# Altium schematic symbol library smdUtilities.SchLib: 114 symbols (part 1 of 2)
Pins are listed as number, name and electrical type; pins without a type are passive.

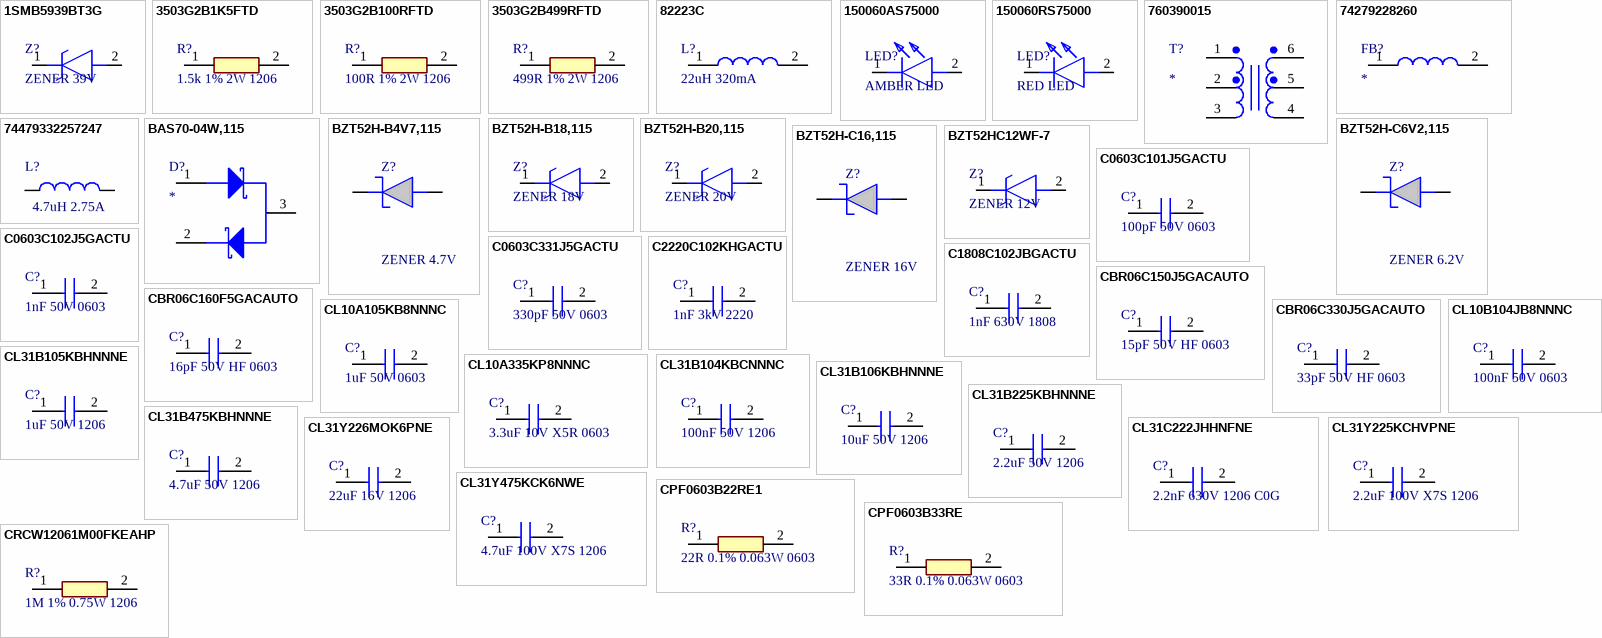
[diagram p0: symbols 1SMB5939BT3G to CRCW12061M00FKEAHP]

## 1SMB5939BT3G
designator Z?, comment ZENER 39V
ZENER 39V 3W SMB; Manufacturer_Name: onsemi; Manufacturer_Part_Number: 1SMB5939BT3G; Datasheet Link: https://www.onsemi.com/pub/Collateral/1SMB5913BT3-D.PDF; Height: 2.47mm; Mouser Part Number: 863-1SMB5939BT3G; Mouser Price/Stock: https://www.mouser.co.uk/ProductDetail/onsemi/1SMB5939BT3G?qs=vLkC5FC1VN%2FXzAJEtVrzbQ%3D%3D; Arrow Part Number: 1SMB5939BT3G; Arrow Price/Stock: https://www.arrow.com/en/products/1smb5939bt3g/on-semiconductor
footprint DIOM5436X247N
pins: 1 K, 2 A

## 3503G2B1K5FTD
designator R?, comment 1.5k 1% 2W 1206
RES 1.5 KOHM 1% 2W 1206; Manufacturer_Name: TE Connectivity; Manufacturer_Part_Number: 3503G2B1K5FTD; Datasheet Link: https://www.te.com/commerce/DocumentDelivery/DDEController?Action=srchrtrv&DocNm=1773270-4&DocType=Data%20Sheet&DocLang=English&PartCntxt=4-2176525-9&DocFormat=pdf; Height: 0.58mm
footprint RESC3016X58N
pins: 1, 2

## 3503G2B100RFTD
designator R?, comment 100R 1% 2W 1206
RES 100 OHM 1% 2W 1206; Manufacturer_Name: TE Connectivity; Manufacturer_Part_Number: 3503G2B100RFTD; Datasheet Link: https://www.te.com/commerce/DocumentDelivery/DDEController?Action=srchrtrv&DocNm=1773270-4&DocType=Data%20Sheet&DocLang=English&PartCntxt=4-2176525-9&DocFormat=pdf; Height: 0.58mm
footprint RESC3016X58N
pins: 1, 2

## 3503G2B499RFTD
designator R?, comment 499R 1% 2W 1206
RES 499 OHM 1% 2W 1206; Manufacturer_Name: TE Connectivity; Manufacturer_Part_Number: 3503G2B499RFTD; Datasheet Link: https://www.te.com/commerce/DocumentDelivery/DDEController?Action=srchrtrv&DocNm=1773270-4&DocType=Data%20Sheet&DocLang=English&PartCntxt=4-2176525-9&DocFormat=pdf; Height: 0.58mm
footprint RESC3016X58N
pins: 1, 2

## 82223C
designator L?, comment 22uH 320mA
FIXED IND 22UH 320MA 920MOHM SMD; Manufacturer_Name: Murata Electronics; Manufacturer_Part_Number: 82223C; Datasheet Link: https://search.murata.co.jp/Ceramy/image/img/P02A/kmp_8200c.pdf; Height: 2.3mm; Mouser Part Number: 580-82223C; Mouser Price/Stock: https://www.mouser.co.uk/ProductDetail/Murata-Power-Solutions/82223C?qs=YrwRCnq4S4jab2vxz%2FxF7Q%3D%3D; Arrow Part Number: 82223C; Arrow Price/Stock: https://www.arrow.com/en/products/82223c/murata-power-solutions?utm_currency=USD&region=nac
footprint 8200
pins: 1, 2

## 150060AS75000
designator LED?, comment AMBER LED
LED AMBER 2V 20mA; Manufacturer_Name: Wurth Elektronik; Manufacturer_Part_Number: 150060AS75000; Datasheet Link: https://www.we-online.com/catalog/datasheet/150060AS75000.pdf; Height: 0.8mm; Mouser Part Number: 710-150060AS75000; Mouser Price/Stock: https://www.mouser.co.uk/ProductDetail/Wurth-Elektronik/150060AS75000?qs=d0WKAl%252BL4KbvMBYryeof0Q%3D%3D
footprint LEDC1608X80N
pins: 1 K, 2 A

## 150060RS75000
designator LED?, comment RED LED
LED RED 2V 30mA; Manufacturer_Name: Wurth Elektronik; Manufacturer_Part_Number: 150060RS75000; Datasheet Link: https://www.we-online.com/catalog/datasheet/150060RS75000.pdf; Height: 0.7mm; Mouser Part Number: 710-150060RS75000; Mouser Price/Stock: https://www.mouser.co.uk/ProductDetail/Wurth-Elektronik/150060RS75000?qs=LlUlMxKIyB3QnmZ3fw%2FVCA%3D%3D
footprint LEDC1608X70N
pins: 1 K, 2 A

## 760390015
designator T?
TRAFO P-P 3.3V-5.5V; Manufacturer_Name: Wurth Elektronik; Manufacturer_Part_Number: 760390015; Datasheet Link: https://www.we-online.com/components/products/datasheet/760390015.pdf; Mouser Part Number: 710-760390015; Mouser Price/Stock: https://www.mouser.co.uk/ProductDetail/Wurth-Elektronik/760390015?qs=wElim4iM2pjOQCmk%252B8YbFA%3D%3D
footprint 760390015
pins: 1, 2, 3, 4, 5, 6

## 74279228260
designator FB?
FERRITE BEAD 26 OHM @ 100 MHz 0603; Manufacturer_Name: Wurth Elektronik; Manufacturer_Part_Number: 74279228260; Datasheet Link: https://www.mouser.com/datasheet/2/445/74279228260-516425.pdf; Height: 1mm; Mouser Part Number: 710-74279228260; Mouser Price/Stock: https://www.mouser.co.uk/ProductDetail/Wurth-Elektronik/74279228260?qs=%252B7BPNfeNhvUzH8CaXHTy3g%3D%3D
footprint BEADC1608X100N
pins: 1, 2

## 74479332257247
designator L?, comment 4.7uH 2.75A
FIXED IND 4.7UH 2.75A 107MOHM SMD; Manufacturer Part Number: 74479332257247; Manufacturer: Wurth Elektronik; Match Code: WE-PMFI; Case/Size Code: 322512; DC Resistance: 107mΩ; Inductance: 4.7μH; Performance Rated Current: 2.7A; Operating Voltage (AC): 48V; Saturation Current @ 30%: 4A; Self Resonant Frequency: 25MHz; Category: Power Inductors; ComponentLink1Description: Website Link; ComponentLink1URL: https://www.we-online.com/redexpert/article/74479332257247?ad; ComponentLink2Description: Datasheet Link; ComponentLink2URL: https://www.we-online.com/redexpert/spec/74479332257247?ad; Mount: Surface Mount; Min Operating Temperature: -55°C; Max Operating Temperature: 150°C; Packaging: Tape and Reel; Length: 3.2mm; Width: 2.5mm; Height: 1.2mm
footprint WE-PMFI_322512_IPC-7351 (SMT Power Inductor, body 3.20 x 2.50 mm)
pins: 1, 2

## BAS70-04W,115
designator D?
DIODE ARR SCHOTT SERIES 70V 70MA SOT323; Manufacturer_Name: Nexperia; Manufacturer_Part_Number: BAS70-04W,115; Datasheet Link: https://assets.nexperia.com/documents/data-sheet/BAS70-04W.pdf; Height: 1.1mm; Mouser Part Number: 771-BAS70-04W-T/R; Mouser Price/Stock: https://www.mouser.co.uk/ProductDetail/Nexperia/BAS70-04W115?qs=me8TqzrmIYVfBozCNyL8nw%3D%3D; Arrow Part Number: BAS70-04W,115; Arrow Price/Stock: https://www.arrow.com/en/products/bas70-04w115/nexperia?utm_currency=USD&region=nac
footprint SOT65P210X110-3N
pins: 1 A1, 2 K2, 3 K1;_A2

## BZT52H-B4V7,115
designator Z?, comment ZENER 4.7V
ZENER 4V7 SOD-123F; Manufacturer_Name: Nexperia; Manufacturer_Part_Number: BZT52H-B4V7,115; Geometry.Height: 1.2mm; Arrow Part Number: BZT52H-B4V7,115; Datasheet Link: https://assets.nexperia.com/documents/data-sheet/BZT52H_SER.pdf
footprint BZT52HC5V6115
pins: 1 K, 2 A

## BZT52H-B18,115
designator Z?, comment ZENER 18V
ZENER 18V SOD-123F; Manufacturer_Name: Nexperia; Manufacturer_Part_Number: BZT52H-B18,115; Datasheet Link: https://assets.nexperia.com/documents/data-sheet/BZT52H_SER.pdf; Height: 1.2mm; Mouser Part Number: 771-BZT52HB18115; Mouser Price/Stock: https://www.mouser.co.uk/ProductDetail/Nexperia/BZT52H-B18115?qs=A1cBxND5mHIELp%2F27k%252B3RQ%3D%3D; Arrow Part Number: BZT52H-B18,115; Arrow Price/Stock: https://www.arrow.com/en/products/bzt52h-b18115/nexperia?region=nac
footprint SODFL3516X120N
pins: 1 K, 2 A

## BZT52H-B20,115
designator Z?, comment ZENER 20V
ZENER 20V SOD-123F; Manufacturer_Name: Nexperia; Manufacturer_Part_Number: BZT52H-B20,115; Datasheet Link: https://assets.nexperia.com/documents/data-sheet/BZT52H_SER.pdf; Height: 1.2mm
footprint SODFL3516X120N
pins: 1 K, 2 A

## BZT52H-C6V2,115
designator Z?, comment ZENER 6.2V
ZENER 6V2 SOD-123F; Manufacturer_Name: Nexperia; Manufacturer_Part_Number: BZT52H-C6V2,115; Geometry.Height: 1.2mm; Arrow Part Number: BZT52H-C6V2,115; Arrow Price/Stock: https://www.arrow.com/en/products/bzt52h-c8v2115/nexperia?region=nac; Datasheet Link: https://assets.nexperia.com/documents/data-sheet/BZT52H_SER.pdf
footprint BZT52HC5V6115
pins: 1 K, 2 A

## BZT52H-C16,115
designator Z?, comment ZENER 16V
ZENER 16V SOD-123F; Manufacturer_Name: Nexperia; Manufacturer_Part_Number: BZT52H-C16,115; Geometry.Height: 1.2mm; Arrow Part Number: BZT52H-C16,115; Arrow Price/Stock: https://www.arrow.com/en/products/bzt52h-c8v2115/nexperia?region=nac; Datasheet Link: https://assets.nexperia.com/documents/data-sheet/BZT52H_SER.pdf
footprint BZT52HC5V6115
pins: 1 K, 2 A

## BZT52HC12WF-7
designator Z?, comment ZENER 12V
ZENER 12V SOD-123F; Manufacturer_Name: Diodes Incorporated; Manufacturer_Part_Number: BZT52HC12WF-7; Datasheet Link: https://www.diodes.com//assets/Datasheets/BZT52HC2V4WF - BZT52HC47WF.pdf; Height: 1.15mm; Mouser Part Number: 621-BZT52HC12WF-7; Mouser Price/Stock: https://www.mouser.co.uk/ProductDetail/Diodes-Incorporated/BZT52HC12WF-7?qs=4z8IqdUrQ%2FuAek%2F8AIVCQA%3D%3D; Arrow Part Number: BZT52HC12WF-7; Arrow Price/Stock: https://www.arrow.com/en/products/bzt52hc12wf-7/diodes-incorporated?region=europe
footprint SODFL3518X115N
pins: 1 K, 2 A

## C0603C101J5GACTU
designator C?, comment 100pF 50V 0603
CAP CER 100PF 50V C0G 0603; Manufacturer_Name: Yageo Group; Manufacturer_Part_Number: C0603C101J5GACTU; Datasheet Link: https://www.yageogroup.com/content/datasheet/asset/file/KEM_C1003_C0G_SMD; Height: 0.87mm
footprint CAPC1608X87N
pins: 1, 2

## C0603C102J5GACTU
designator C?, comment 1nF 50V 0603
CAP CER 1000PF 50V C0G 0603; Manufacturer_Name: KEMET; Manufacturer_Part_Number: C0603C102J5GACTU; Datasheet Link: https://content.kemet.com/datasheets/KEM_C1003_C0G_SMD.pdf; Height: 0.87mm; Mouser Part Number: 80-C0603C102J5GAC; Mouser Price/Stock: https://www.mouser.co.uk/ProductDetail/KEMET/C0603C102J5GAC?qs=Zjfhvh7dXTOsQ2RXjJ2KwA%3D%3D; Arrow Part Number: C0603C102J5GAC; Arrow Price/Stock: https://www.arrow.com/en/products/c0603c102j5gac/kemet-corporation
footprint CAPC1608X87N
pins: 1, 2

## C0603C331J5GACTU
designator C?, comment 330pF 50V 0603
CAP CER 330PF 50V C0G 0603; Manufacturer_Name: Yageo Group; Manufacturer_Part_Number: C0603C331J5GACTU; Datasheet Link: https://www.yageogroup.com/content/datasheet/asset/file/KEM_C1003_C0G_SMD; Height: 0.87mm; Mouser Part Number: 80-C0603C331J5G; Mouser Price/Stock: https://www.mouser.co.uk/ProductDetail/KEMET/C0603C331J5GACTU?qs=uaRzdKR4dIhbJLQHMBvt4g%3D%3D; Arrow Part Number: C0603C331J5GACTU; Arrow Price/Stock: https://www.arrow.com/en/products/c0603c331j5gactu/kemet-corporation?utm_currency=USD&region=nac
footprint CAPC1608X87N
pins: 1, 2

## C1808C102JBGACTU
designator C?, comment 1nF 630V 1808
CAP CER 1000PF 630V C0G 1808; Manufacturer_Name: KEMET; Manufacturer_Part_Number: C1808C102JBGACTU; Datasheet Link: https://content.kemet.com/datasheets/KEM_C1009_C0G_HV_SMD.pdf; Height: 1.75mm; Mouser Part Number: 80-C1808C102JBG; Mouser Price/Stock: https://www.mouser.co.uk/ProductDetail/KEMET/C1808C102JBGACTU?qs=7IaIRco65plc2tmbg3Ygug%3D%3D; Arrow Part Number: C1808C102JBGACTU; Arrow Price/Stock: https://www.arrow.com/en/products/c1808c102jbgactu/kemet-corporation?utm_currency=USD&region=nac
footprint C1808
pins: 1, 2

## C2220C102KHGACTU
designator C?, comment 1nF 3kV 2220
CAP CER 1000PF 3KV C0G 2220; Manufacturer_Name: KEMET; Manufacturer_Part_Number: C2220C102KHGACTU; Datasheet Link: https://content.kemet.com/datasheets/KEM_C1009_C0G_HV_SMD.pdf; Height: 2.2mm; Mouser Part Number: 80-C2220C102KHGACTU; Mouser Price/Stock: https://www.mouser.co.uk/ProductDetail/KEMET/C2220C102KHGACTU?qs=sDVxE4SYDkQiR6xwfhJl6Q%3D%3D; Arrow Part Number: C2220C102KHGACTU; Arrow Price/Stock: https://www.arrow.com/en/products/c2220c102khgactu/kemet-corporation?utm_currency=USD&region=nac
footprint C2220
pins: 1, 2

## CBR06C150J5GACAUTO
designator C?, comment 15pF 50V HF 0603
CAP CER HF 15PF 50V C0G 0603; Manufacturer_Name: KEMET; Manufacturer_Part_Number: CBR06C150J5GACAUTO; Datasheet Link: https://search.kemet.com/download/datasheet/CBR06C150J5GACAUTO7411
footprint CBR06
pins: 1, 2

## CBR06C160F5GACAUTO
designator C?, comment 16pF 50V HF 0603
CAP CER HF 16PF 50V C0G 0603; Manufacturer_Name: KEMET; Manufacturer_Part_Number: CBR06C160F5GACAUTO; Datasheet Link: https://search.kemet.com/download/datasheet/CBR06C160F5GACAUTO
footprint CBR06
pins: 1, 2

## CBR06C330J5GACAUTO
designator C?, comment 33pF 50V HF 0603
CAP CER HF 33PF 50V C0G 0603; Manufacturer_Name: KEMET; Manufacturer_Part_Number: CBR06C330J5GACAUTO; Datasheet Link: https://search.kemet.com/download/datasheet/CBR06C330J5GACAUTO; Mouser Part Number: 80-CBR06C330J5GAUTO; Mouser Price/Stock: https://www.mouser.co.uk/ProductDetail/KEMET/CBR06C330J5GACAUTO?qs=By6Nw2ByBD34mt%252B59rpSTg%3D%3D; Arrow Part Number: CBR06C330J5GACAUTO; Arrow Price/Stock: https://www.arrow.com/en/products/cbr06c330j5gacauto/kemet-corporation?utm_currency=USD&region=nac
footprint CBR06
pins: 1, 2

## CL10A105KB8NNNC
designator C?, comment 1uF 50V 0603
CAP CER 1UF 50V X5R 0603; Manufacturer_Name: SAMSUNG; Manufacturer_Part_Number: CL10A105KB8NNNC; Datasheet Link: https://datasheet.datasheetarchive.com/originals/distributors/Datasheets-DGA10/2411562.pdf; Height: 0.9mm; Mouser Part Number: 187-CL10A105KB8NNNC; Mouser Price/Stock: https://www.mouser.co.uk/ProductDetail/Samsung-Electro-Mechanics/CL10A105KB8NNNC?qs=ktYoCbbtCSJz4pFCLWXd5g%3D%3D; Arrow Part Number: CL10A105KB8NNNC; Arrow Price/Stock: https://www.arrow.com/en/products/cl10a105kb8nnnc/samsung-electro-mechanics?utm_currency=USD&region=nac
footprint CAPC1608X90N
pins: 1, 2

## CL10A335KP8NNNC
designator C?, comment 3.3uF 10V X5R 0603
CAP CER 3.3UF 10V X5R 0603; Manufacturer_Name: SAMSUNG; Manufacturer_Part_Number: CL10A335KP8NNNC; Datasheet Link: https://datasheet.datasheetarchive.com/originals/dk/DKDS-19/373427.pdf; Height: 0.9mm; Mouser Part Number: 187-CL10A335KP8NNNC; Mouser Price/Stock: https://www.mouser.co.uk/ProductDetail/Samsung-Electro-Mechanics/CL10A335KP8NNNC?qs=%252B6g0mu59x7L8JMDO0NkilQ%3D%3D
footprint CAPC1608X90N
pins: 1, 2

## CL10B104JB8NNNC
designator C?, comment 100nF 50V 0603
CAP CER 0.1UF 50V X7R 0603; Manufacturer_Name: SAMSUNG; Manufacturer_Part_Number: CL10B104JB8NNNC; Datasheet Link: https://datasheet.datasheetarchive.com/originals/distributors/Datasheets_SAMA/dd149ce8a6679b37799cedb31427d43d.pdf; Height: 0.9mm; Mouser Part Number: 187-CL10B104JB8NNNC; Mouser Price/Stock: https://www.mouser.co.uk/ProductDetail/Samsung-Electro-Mechanics/CL10B104JB8NNNC?qs=349EhDEZ59oLEw5wc1qvGw%3D%3D; Arrow Part Number: CL10B104JB8NNNC; Arrow Price/Stock: https://www.arrow.com/en/products/cl10b104jb8nnnc/samsung-electro-mechanics?utm_currency=USD&region=europe
footprint CAPC1608X90N
pins: 1, 2

## CL31B104KBCNNNC
designator C?, comment 100nF 50V 1206
CAP CER 0.1UF 50V X7R 1206; Manufacturer_Name: SAMSUNG; Manufacturer_Part_Number: CL31B104KBCNNNC; Datasheet Link: https://datasheet.datasheetarchive.com/originals/distributors/Datasheets_SAMA/0fdb6a11e020a7299f4d0713dd2bd7ee.pdf; Height: 1mm; Mouser Part Number: 187-CL31B104KBCNNNC; Mouser Price/Stock: https://www.mouser.co.uk/ProductDetail/Samsung-Electro-Mechanics/CL31B104KBCNNNC?qs=349EhDEZ59oHABbyGq1iKA%3D%3D; Arrow Part Number: CL31B104KBCNNNC; Arrow Price/Stock: https://www.arrow.com/en/products/cl31b104kbcnnnc/samsung-electro-mechanics?utm_currency=USD&region=europe
footprint CAPC3216X100N
pins: 1, 2

## CL31B105KBHNNNE
designator C?, comment 1uF 50V 1206
CAP CER 1UF 50V X7R 1206; Manufacturer_Name: SAMSUNG; Manufacturer_Part_Number: CL31B105KBHNNNE; Datasheet Link: https://datasheet.datasheetarchive.com/originals/distributors/Datasheets_SAMA/5cd9a1c15dad09a7278f50cb1a2e4a6e.pdf; Height: 1.8mm; Mouser Part Number: 187-CL31B105KBHNNNE; Mouser Price/Stock: https://www.mouser.co.uk/ProductDetail/Samsung-Electro-Mechanics/CL31B105KBHNNNE?qs=349EhDEZ59oPJzVuH4J5mw%3D%3D; Arrow Part Number: CL31B105KBHNNNE; Arrow Price/Stock: https://www.arrow.com/en/products/cl31b105kbhnnne/samsung-electro-mechanics?utm_currency=USD&region=nac
footprint CAPC3216X180N
pins: 1, 2

## CL31B106KBHNNNE
designator C?, comment 10uF 50V 1206
CAP CER 10UF 50V X7R 1206; Manufacturer_Name: SAMSUNG; Manufacturer_Part_Number: CL31B106KBHNNNE; Datasheet Link: https://datasheet.datasheetarchive.com/originals/distributors/DKDS-19/375194.pdf; Height: 1.8mm; Mouser Part Number: 187-CL31B106KBHNNNE; Mouser Price/Stock: https://www.mouser.co.uk/ProductDetail/Samsung-Electro-Mechanics/CL31B106KBHNNNE?qs=T0XSgvH75d4ZN8WrMi8xmQ%3D%3D; Arrow Part Number: CL31B106KBHNNNE; Arrow Price/Stock: https://www.arrow.com/en/products/cl31b106kbhnnne/samsung-electro-mechanics?utm_currency=USD&region=europe
footprint CAPC3216X180N
pins: 1, 2

## CL31B225KBHNNNE
designator C?, comment 2.2uF 50V 1206
CAP CER 2.2UF 50V X7R 1206; Manufacturer_Name: SAMSUNG; Manufacturer_Part_Number: CL31B225KBHNNNE; Datasheet Link: https://www.arrow.com/en/products/cl31b225kbhnnne/samsung-electro-mechanics; Height: 1.8mm; Mouser Part Number: 187-CL31B225KBHNNNE; Mouser Price/Stock: https://www.mouser.co.uk/ProductDetail/Samsung-Electro-Mechanics/CL31B225KBHNNNE?qs=349EhDEZ59oNolj3jR402w%3D%3D; Arrow Part Number: CL31B225KBHNNNE; Arrow Price/Stock: https://www.arrow.com/en/products/cl31b225kbhnnne/samsung-electro-mechanics?region=nac
footprint CAPC3216X180N
pins: 1, 2

## CL31B475KBHNNNE
designator C?, comment 4.7uF 50V 1206
CAP CER 4.7UF 50V X7R 1206; Manufacturer_Name: SAMSUNG; Manufacturer_Part_Number: CL31B475KBHNNNE; Datasheet Link: https://datasheet.datasheetarchive.com/originals/distributors/Datasheets_SAMA/0d9bfbd020db3a1b9b1df73ff1d3ff74.pdf; Height: 1.8mm; Mouser Part Number: 187-CL31B475KBHNNNE; Mouser Price/Stock: https://www.mouser.co.uk/ProductDetail/Samsung-Electro-Mechanics/CL31B475KBHNNNE?qs=349EhDEZ59puU52XGPBotQ%3D%3D; Arrow Part Number: CL31B475KBHNNNE; Arrow Price/Stock: https://www.arrow.com/en/products/cl31b475kbhnnne/samsung-electro-mechanics?region=nac
footprint CAPC3216X180N
pins: 1, 2

## CL31C222JHHNFNE
designator C?, comment 2.2nF 630V 1206 C0G
CAP CER 2200PF 630V C0G 1206; Manufacturer_Name: SAMSUNG; Manufacturer_Part_Number: CL31C222JHHNFNE; Datasheet Link: https://datasheet.datasheetarchive.com/originals/distributors/DKDS-19/375194.pdf; Height: 1.8mm
footprint CAPC3216X180N
pins: 1, 2

## CL31Y225KCHVPNE
designator C?, comment 2.2uF 100V X7S 1206
CAP CER 2.2UF 100V X7S 1206; Manufacturer_Name: SAMSUNG; Manufacturer_Part_Number: CL31Y225KCHVPNE; Datasheet Link: https://product.samsungsem.com/mlcc/CL31Y475KCK6NW.do; Height: 1.9mm
footprint CAPC3216X190N
pins: 1, 2

## CL31Y226MOK6PNE
designator C?, comment 22uF 16V 1206
CAP CER 22UF 16V X7S 1206; Manufacturer_Name: SAMSUNG; Manufacturer_Part_Number: CL31Y226MOK6PNE; Datasheet Link: https://www.mouser.com/catalog/specsheets/Samsung_02-11-2025_SpecSheet_CL31Y226MOK6PN_20250211.pdf; Height: 1.9mm
footprint CAPC3216X190N
pins: 1, 2

## CL31Y475KCK6NWE
designator C?, comment 4.7uF 100V X7S 1206
CAP CER 4.7UF 100V X7S 1206; Manufacturer_Name: SAMSUNG; Manufacturer_Part_Number: CL31Y475KCK6NWE; Datasheet Link: https://product.samsungsem.com/mlcc/CL31Y475KCK6NW.do; Height: 1.9mm
footprint CAPC3216X190N
pins: 1, 2

## CPF0603B22RE1
designator R?, comment 22R 0.1% 0.063W 0603
RES 22 OHM 0.1% 1/16W 0603; Manufacturer_Name: TE Connectivity; Manufacturer_Part_Number: CPF0603B22RE1; Datasheet Link: http://www.farnell.com/datasheets/1786775.pdf; Height: 0.55mm; Mouser Part Number: 279-CPF0603B22RE1; Mouser Price/Stock: https://www.mouser.co.uk/ProductDetail/TE-Connectivity-Holsworthy/CPF0603B22RE1?qs=9ylKvqdyudkVIrb4C7ifwg%3D%3D; Arrow Part Number: CPF0603B22RE1; Arrow Price/Stock: https://www.arrow.com/en/products/cpf0603b22re1/te-connectivity?utm_currency=USD&region=nac
footprint RESC1608X55N
pins: 1, 2

## CPF0603B33RE
designator R?, comment 33R 0.1% 0.063W 0603
RES 33 OHM 0.1% 1/16W 0603; Manufacturer_Name: TE Connectivity; Manufacturer_Part_Number: CPF0603B33RE; Datasheet Link: https://www.te.com/commerce/DocumentDelivery/DDEController?Action=srchrtrv&DocNm=8-1773459-4_ELEVATOR_ESCALATOR_SOLUTIONS&DocType=Data%20Sheet&DocLang=English&PartCntxt=4-1614881-8&DocFormat=pdf; Height: 0.55mm; Mouser Part Number: 279-CPF0603B33RE; Mouser Price/Stock: https://www.mouser.co.uk/ProductDetail/TE-Connectivity-Holsworthy/CPF0603B33RE?qs=8G8kQhBkhGhs9fvyVwIWaw%3D%3D; Arrow Part Number: CPF0603B33RE; Arrow Price/Stock: https://www.arrow.com/en/products/cpf0603b33re/te-connectivity?utm_currency=USD&region=nac
footprint RESC1608X55N
pins: 1, 2

## CRCW12061M00FKEAHP
designator R?, comment 1M 1% 0.75W 1206
RES 1M OHM 1% 3/4W 1206; Manufacturer_Name: Vishay; Manufacturer_Part_Number: CRCW12061M00FKEAHP; Datasheet Link: http://www.vishay.com/docs/20035/dcrcwe3.pdf; Height: 0.65mm; Mouser Part Number: 71-CRCW12061M00FKEAH; Mouser Price/Stock: https://www.mouser.co.uk/ProductDetail/Vishay-Dale/CRCW12061M00FKEAHP?qs=k2%2FDWSARqgENUp%252BsnQfalQ%3D%3D; Arrow Part Number: CRCW12061M00FKEAHP; Arrow Price/Stock: https://www.arrow.com/en/products/crcw12061m00fkeahp/vishay?region=nac
footprint RESC3116X65N
pins: 1, 2

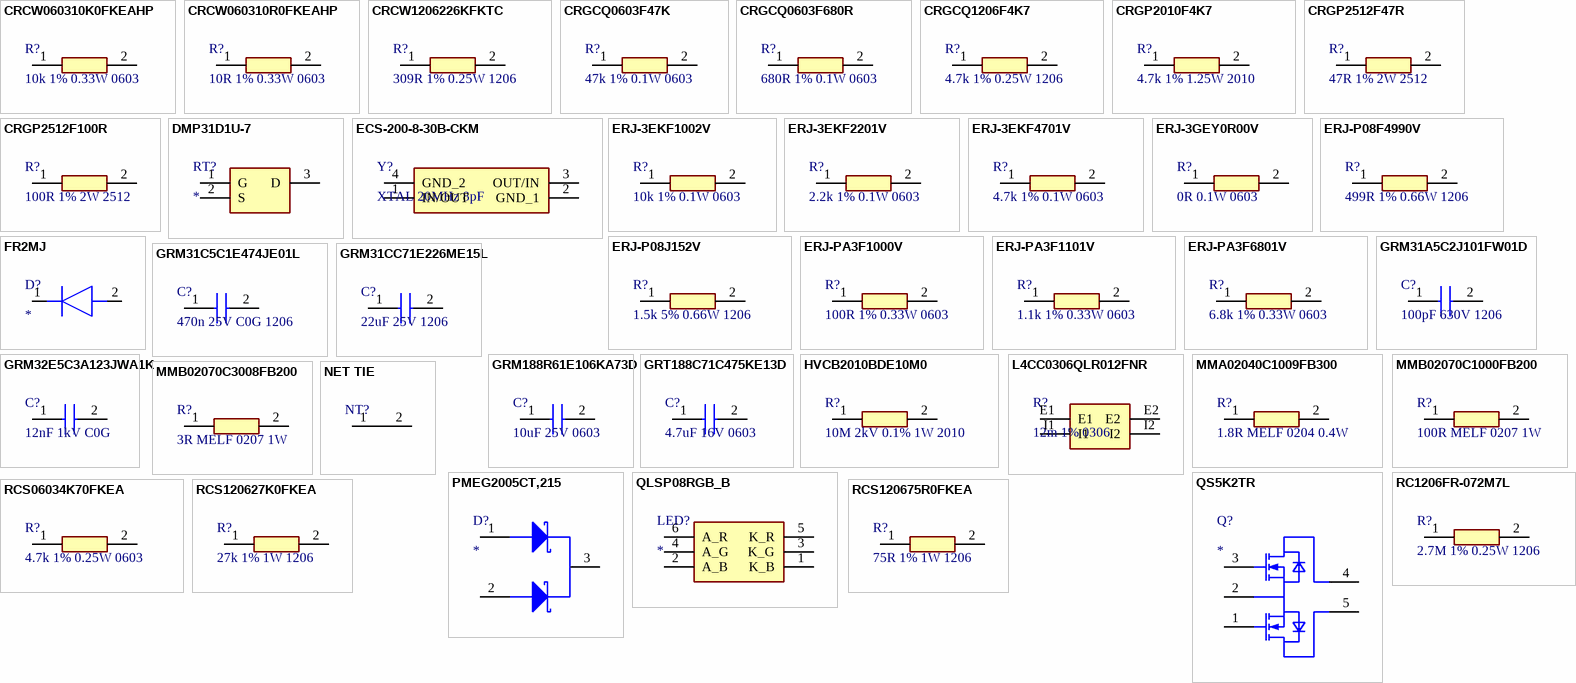
[diagram p1: symbols CRCW060310K0FKEAHP to RCS120675R0FKEA]

## CRCW060310K0FKEAHP
designator R?, comment 10k 1% 0.33W 0603
RES 10 KOHM 1% 1/3W 0603; Manufacturer_Name: Vishay; Manufacturer_Part_Number: CRCW060310K0FKEAHP; Datasheet Link: http://www.vishay.com/docs/20043/crcwhpe3.pdf; Height: 0.5mm; Mouser Part Number: 71-CRCW060310K0FKEAH; Mouser Price/Stock: https://www.mouser.co.uk/ProductDetail/Vishay-Dale/CRCW060310K0FKEAHP?qs=FlFvgi4rxBwhwmNEaK0SzQ%3D%3D; Arrow Part Number: CRCW060310K0FKEAHP; Arrow Price/Stock: https://www.arrow.com/en/products/crcw060310k0fkeahp/vishay?utm_currency=USD&region=europe
footprint RESC1608X50N
pins: 1, 2

## CRCW060310R0FKEAHP
designator R?, comment 10R 1% 0.33W 0603
RES 10 OHM 1% 1/3W 0603; Manufacturer_Name: Vishay; Manufacturer_Part_Number: CRCW060310R0FKEAHP; Datasheet Link: http://www.farnell.com/datasheets/1885357.pdf; Height: 0.5mm; Mouser Part Number: 71-CRCW060310R0FKEAH; Mouser Price/Stock: https://www.mouser.co.uk/ProductDetail/Vishay-Dale/CRCW060310R0FKEAHP?qs=k2%2FDWSARqgHKJ7AdmQKyZw%3D%3D; Arrow Part Number: CRCW060310R0FKEAHP; Arrow Price/Stock: https://www.arrow.com/en/products/crcw060310r0fkeahp/vishay?utm_currency=USD&region=nac
footprint RESC1608X50N
pins: 1, 2

## CRCW1206226KFKTC
designator R?, comment 309R 1% 0.25W 1206
RES 309 OHM 1% 0.25W 1206; Manufacturer_Name: Vishay; Height: 0.6mm
footprint RESC3216X60N
pins: 1, 2

## CRGCQ0603F47K
designator R?, comment 47k 1% 0.1W 0603
RES 47 KOHM 1% 1/10W 0603; Manufacturer_Name: TE Connectivity; Manufacturer_Part_Number: CRGCQ0603F47K; Datasheet Link: https://componentsearchengine.com/Datasheets/2/CRGCQ0603F330R.pdf; Height: 0.55mm
footprint RESC1608X55N
pins: 1, 2

## CRGCQ0603F680R
designator R?, comment 680R 1% 0.1W 0603
RES 680 OHM 1% 1/10W 0603; Manufacturer_Name: TE Connectivity; Manufacturer_Part_Number: CRGCQ0603F680R; Datasheet Link: https://componentsearchengine.com/Datasheets/2/CRGCQ0603F330R.pdf; Height: 0.55mm; Mouser Part Number: 279-CRGCQ0603F680R; Mouser Price/Stock: https://www.mouser.co.uk/ProductDetail/TE-Connectivity-Holsworthy/CRGCQ0603F330R?qs=wUXugUrL1qwnOVRnnIx0nw%3D%3D; Arrow Part Number: CRGCQ0603F680R; Arrow Price/Stock: https://www.arrow.com/en/products/crgcq0603f330r/te-connectivity?region=nac
footprint RESC1608X55N
pins: 1, 2

## CRGCQ1206F4K7
designator R?, comment 4.7k 1% 0.25W 1206
RES 4.7K OHM 1% 1/4W 1206; Manufacturer_Name: TE Connectivity; Manufacturer_Part_Number: CRGCQ1206F4K7; Datasheet Link: https://www.te.com/commerce/DocumentDelivery/DDEController?Action=showdoc&DocId=Data+Sheet%7F1773204-3%7F1%7Fpdf%7FEnglish%7FENG_DS_1773204-3_1.pdf%7F5-2176339-2; Height: 0.65mm; Mouser Part Number: 279-CRGCQ1206F4K7; Mouser Price/Stock: https://www.mouser.co.uk/ProductDetail/TE-Connectivity-Holsworthy/CRGCQ1206F4K7?qs=wUXugUrL1qw94LjckR%2FRUw%3D%3D; Arrow Part Number: CRGCQ1206F4K7; Arrow Price/Stock: https://www.arrow.com/en/products/crgcq1206f4k7/te-connectivity
footprint RESC3116X65N
pins: 1, 2

## CRGP2010F4K7
designator R?, comment 4.7k 1% 1.25W 2010
RES 4.7K OHM 1% 1.25W 2010; Manufacturer_Name: TE Connectivity; Manufacturer_Part_Number: CRGP2010F4K7; Datasheet Link: https://www.te.com/commerce/DocumentDelivery/DDEController?Action=srchrtrv&DocNm=9-1773463-9&DocType=Data%20Sheet&DocLang=English&PartCntxt=3-2176330-3&DocFormat=pdf; Height: 0.65mm; Mouser Part Number: 279-CRGP2010F4K7; Mouser Price/Stock: https://www.mouser.co.uk/ProductDetail/TE-Connectivity-Holsworthy/CRGP2010F4K7?qs=wUXugUrL1qwo%252BqRuv6Hw2A%3D%3D; Arrow Part Number: CRGP2010F4K7; Arrow Price/Stock: https://www.arrow.com/en/products/crgp2010f4k7/te-connectivity?region=nac
footprint RESC5025X65N
pins: 1, 2

## CRGP2512F47R
designator R?, comment 47R 1% 2W 2512
RES 47 OHM 1% 2W 2512; Manufacturer_Name: TE Connectivity; Manufacturer_Part_Number: CRGP2512F47R; Datasheet Link: https://www.te.com/commerce/DocumentDelivery/DDEController?Action=srchrtrv&DocNm=9-1773463-9&DocType=Data%20Sheet&DocLang=English&PartCntxt=2176331-6&DocFormat=pdf; Height: 0.65mm; Mouser Part Number: 279-CRGP2512F47R; Mouser Price/Stock: https://www.mouser.co.uk/ProductDetail/TE-Connectivity-Holsworthy/CRGP2512F27R/?qs=wUXugUrL1qwI8QBQQTI66w%3D%3D
footprint RESC6432X65N
pins: 1, 2

## CRGP2512F100R
designator R?, comment 100R 1% 2W 2512
RES 100 OHM 1% 2W 2512; Manufacturer_Name: TE Connectivity; Manufacturer_Part_Number: CRGP2512F100R; Datasheet Link: https://datasheet.datasheetarchive.com/originals/distributors/DKDS-39/9272.pdf; Height: 0.65mm; Mouser Part Number: 279-CRGP2512F100R; Mouser Price/Stock: https://www.mouser.co.uk/ProductDetail/TE-Connectivity-Holsworthy/CRGP2512F100R/?qs=wUXugUrL1qyX%252BdZ%252BaC0m2w%3D%3D; Arrow Part Number: CRGP2512F100R; Arrow Price/Stock: https://www.arrow.com/en/products/crgp2512f100r/te-connectivity?utm_currency=USD&region=nac
footprint RESC6432X65N
pins: 1, 2

## DMP31D1U-7
designator RT?
MOS P-CH 30V 500MA; Manufacturer_Name: Diodes Incorporated; Manufacturer_Part_Number: DMP31D1U-7; Datasheet Link: https://4donline.ihs.com/images/VipMasterIC/IC/DIOD/DIOD-S-A0018337365/DIOD-S-A0018338179-1.pdf?hkey=EF798316E3902B6ED9A73243A3159BB0; Height: 1.2mm
footprint SOT95P240X120-3N
pins: 1 G, 2 S, 3 D

## ECS-200-8-30B-CKM
designator Y?, comment XTAL 20MHz 8pF
CRYSTAL 20 MHZ 8 PF SMD; Manufacturer_Name: ECS; Manufacturer_Part_Number: ECS-200-8-30B-CKM; Datasheet Link: https://ecsxtal.com/store/pdf/ecx_53b.pdf; Height: 0.85mm; Mouser Part Number: 520-200-8-30B-CKM; Mouser Price/Stock: https://www.mouser.co.uk/ProductDetail/ECS/ECS-200-8-30B-CKM?qs=ttzZIJSyan2Rq3v1HiYFFQ%3D%3D; Arrow Part Number: ECS-200-8-30B-CKM; Arrow Price/Stock: https://www.arrow.com/en/products/ecs-200-8-30b-ckm/ecs-international?utm_currency=USD&region=nac
footprint ECS200830BCKM
pins: 1 IN/OUT, 2 GND_1, 3 OUT/IN, 4 GND_2

## ERJ-3EKF1002V
designator R?, comment 10k 1% 0.1W 0603
RES 10 KOHM 1% 1/10W 0603; Manufacturer_Name: Panasonic; Manufacturer_Part_Number: ERJ-3EKF1002V; Datasheet Link: http://industrial.panasonic.com/cdbs/www-data/pdf/RDA0000/AOA0000C86.pdf; Height: 0.55mm; Mouser Part Number: 667-ERJ-3EKF1002V; Mouser Price/Stock: https://www.mouser.co.uk/ProductDetail/Panasonic/ERJ-3EKF1002V?qs=H7k1u0Mp9JSrGPQ5%2F5COuw%3D%3D; Arrow Part Number: ERJ-3EKF1002V; Arrow Price/Stock: https://www.arrow.com/en/products/erj-3ekf1002v/panasonic?utm_currency=USD&region=nac
footprint RESC1608X55N
pins: 1, 2

## ERJ-3EKF2201V
designator R?, comment 2.2k 1% 0.1W 0603
RES 2.2 KOHM 1% 1/10W 0603; Manufacturer_Name: Panasonic; Manufacturer_Part_Number: ERJ-3EKF2201V; Datasheet Link: http://industrial.panasonic.com/cdbs/www-data/pdf/RDA0000/AOA0000C86.pdf; Height: 0.55mm; Mouser Part Number: 667-ERJ-3EKF2201V; Mouser Price/Stock: https://www.mouser.co.uk/ProductDetail/Panasonic/ERJ-3EKF2201V?qs=iBwFsHVUAOcSom3i15f%252BIQ%3D%3D; Arrow Part Number: ERJ-3EKF2201V; Arrow Price/Stock: https://www.arrow.com/en/products/erj-3ekf2201v/panasonic?utm_currency=USD&region=nac
footprint RESC1608X55N
pins: 1, 2

## ERJ-3EKF4701V
designator R?, comment 4.7k 1% 0.1W 0603
RES 4.7 KOHM 1% 1/10W 0603; Manufacturer_Name: Panasonic; Manufacturer_Part_Number: ERJ-3EKF4701V; Datasheet Link: http://industrial.panasonic.com/cdbs/www-data/pdf/RDA0000/AOA0000C86.pdf; Height: 0.55mm; Mouser Part Number: 667-ERJ-3EKF4701V; Mouser Price/Stock: https://www.mouser.co.uk/ProductDetail/Panasonic/ERJ-3EKF4701V?qs=MVjVSMjNRMouVvwnqrpO2w%3D%3D; Arrow Part Number: ERJ-3EKF4701V; Arrow Price/Stock: https://www.arrow.com/en/products/erj-3ekf4701v/panasonic?utm_currency=USD&region=europe
footprint RESC1608X55N
pins: 1, 2

## ERJ-3GEY0R00V
designator R?, comment 0R 0.1W 0603
RES 0 OHM 1/10W 0603; Manufacturer_Name: Panasonic; Manufacturer_Part_Number: ERJ-3GEY0R00V; Datasheet Link: http://docs-europe.electrocomponents.com/webdocs/13ba/0900766b813ba21b.pdf; Height: 0.55mm; Mouser Part Number: 667-ERJ-3GEY0R00V; Mouser Price/Stock: https://www.mouser.co.uk/ProductDetail/Panasonic/ERJ-3GEY0R00V?qs=66DK8nO8gJALIOqOWgiVwg%3D%3D; Arrow Part Number: ERJ-3GEY0R00V; Arrow Price/Stock: https://www.arrow.com/en/products/erj3gey0r00v/panasonic?utm_currency=USD&region=europe
footprint ERJ3EKF1000V
pins: 1, 2

## ERJ-P08F4990V
designator R?, comment 499R 1% 0.66W 1206
RES 499 OHM 1% 2/3W 1206; Manufacturer_Name: Panasonic; Manufacturer_Part_Number: ERJ-P08F4990V; Datasheet Link: http://industrial.panasonic.com/cdbs/www-data/pdf/RDO0000/AOA0000C331.pdf; Height: 0.7mm; Mouser Part Number: 667-ERJ-P08F4990V; Mouser Price/Stock: https://www.mouser.co.uk/ProductDetail/Panasonic/ERJ-P08F4990V?qs=iIVTEDlrHA1isfiYlIU3qA%3D%3D; Arrow Part Number: ERJ-P08F4990V; Arrow Price/Stock: https://www.arrow.com/en/products/erj-p08f4990v/panasonic?utm_currency=USD&region=nac
footprint ERJP08_(1206)
pins: 1, 2

## ERJ-P08J152V
designator R?, comment 1.5k 5% 0.66W 1206
RES 1.5 KOHM  5% 2/3W 1206; Manufacturer_Name: Panasonic; Manufacturer_Part_Number: ERJ-P08J152V; Datasheet Link: http://industrial.panasonic.com/cdbs/www-data/pdf/RDO0000/AOA0000C331.pdf; Height: 0.7mm; Mouser Part Number: 667-ERJ-P08J152V; Mouser Price/Stock: https://www.mouser.co.uk/ProductDetail/Panasonic/ERJ-P08J152V?qs=1VWA5LkbEaq2zTNkpqKKKA%3D%3D; Arrow Part Number: ERJ-P08J152V; Arrow Price/Stock: https://www.arrow.com/en/products/erj-p08j152v/panasonic?utm_currency=USD&region=europe
footprint ERJP08_(1206)
pins: 1, 2

## ERJ-PA3F1000V
designator R?, comment 100R 1% 0.33W 0603
RES 100 OHM 1% 1/3W 0603; Manufacturer_Name: Panasonic; Manufacturer_Part_Number: ERJ-PA3F1000V; Datasheet Link: https://industrial.panasonic.com/cdbs/www-data/pdf/RDO0000/AOA0000C331.pdf; Height: 0.55mm; Mouser Part Number: 667-ERJ-PA3F1000V; Mouser Price/Stock: https://www.mouser.co.uk/ProductDetail/Panasonic/ERJ-PA3F1000V?qs=BzJM0faLVqW%252BmZ6RyMVrFA%3D%3D; Arrow Part Number: ERJ-PA3F1000V; Arrow Price/Stock: https://www.arrow.com/en/products/erj-pa3f1000v/panasonic?utm_currency=USD&region=nac
footprint ERJP03_PA3_(0603)
pins: 1, 2

## ERJ-PA3F1101V
designator R?, comment 1.1k 1% 0.33W 0603
RES 1.1 KOHM 1% 1/3W 0603; Manufacturer_Name: Panasonic; Manufacturer_Part_Number: ERJPA3F1101V; Datasheet Link: https://industrial.panasonic.com/cdbs/www-data/pdf/RDA0000/AOA0000C243.pdf; Height: 0.55mm; Arrow Part Number: ERJPA3F1101V; Arrow Price/Stock: https://www.arrow.com/en/products/erj-pa3f1101v/panasonic?utm_currency=USD&region=nac
footprint ERJP03_PA3_(0603)
pins: 1, 2

## ERJ-PA3F6801V
designator R?, comment 6.8k 1% 0.33W 0603
RES 6.8 KOHM 1% 1/3W 0603; Manufacturer_Name: Panasonic; Manufacturer_Part_Number: ERJ-PA3F6801V; Datasheet Link: https://industrial.panasonic.com/cdbs/www-data/pdf/RDO0000/AOA0000C331.pdf; Height: 0.55mm; Mouser Part Number: 667-ERJ-PA3F6801V; Mouser Price/Stock: https://www.mouser.co.uk/ProductDetail/Panasonic/ERJ-PA3F6801V?qs=BzJM0faLVqWJZPQb%2FyZvrw%3D%3D; Arrow Part Number: ERJ-PA3F6801V; Arrow Price/Stock: https://www.arrow.com/en/products/erj-pa3f6801v/panasonic?utm_currency=USD&region=nac
footprint ERJP03_PA3_(0603)
pins: 1, 2

## FR2MJ
designator D?
DIODE STANDARD 1000V 2A SMB; Manufacturer_Name: Nexperia; Manufacturer_Part_Number: FR2MJ; Datasheet Link: https://assets.nexperia.com/documents/data-sheet/FR2M.pdf; Height: 2.65mm
footprint DIOM5336X265N
pins: 1 K, 2 A

## GRM31A5C2J101FW01D
designator C?, comment 100pF 630V 1206
CAP CER 100PF 630V C0G 1206; Manufacturer_Name: Murata Electronics; Manufacturer_Part_Number: GRM31A5C2J101FW01D; Datasheet Link: https://search.murata.co.jp/Ceramy/image/img/A01X/G101/ENG/GRM31A5C2J101FW01-05B.pdf; Height: 1.25mm; Mouser Part Number: 81-GRM31A5C2J11FW01D; Mouser Price/Stock: https://www.mouser.co.uk/ProductDetail/Murata-Electronics/GRM31A5C2J101FW01D?qs=rrS6PyfT74f3oxTTkWsVBQ%3D%3D; Arrow Part Number: GRM31A5C2J101FW01D; Arrow Price/Stock: https://www.arrow.com/en/products/grm31a5c2j101fw01d/murata-manufacturing?utm_currency=USD&region=nac
footprint GRM31x
pins: 1, 2

## GRM31C5C1E474JE01L
designator C?, comment 470n 25V C0G 1206
CAP CER 0.47UF 25V C0G/NP0 1206; Manufacturer_Name: Murata Electronics; Manufacturer_Part_Number: GRM31C5C1E474JE01L; Datasheet Link: https://search.murata.co.jp/Ceramy/image/img/A01X/G101/ENG/GRM31C5C1E474JE01-01A.pdf; Height: 1.8mm; Mouser Part Number: 81-GRM31C5C1E474JE1L; Mouser Price/Stock: https://www.mouser.co.uk/ProductDetail/Murata-Electronics/GRM31C5C1E474JE01L?qs=hd1VzrDQEGj8GOC097EZLg%3D%3D; Arrow Part Number: GRM31C5C1E474JE01L; Arrow Price/Stock: https://www.arrow.com/en/products/grm31c5c1e474je01l/murata-manufacturing?utm_currency=USD&region=nac
footprint CAPC3216X180N
pins: 1, 2

## GRM31CC71E226ME15L
designator C?, comment 22uF 25V 1206
CAP CER 22UF 25V X7S 1206; Manufacturer_Name: Murata Electronics; Manufacturer_Part_Number: GRM31CC71E226ME15L; Datasheet Link: https://search.murata.co.jp/Ceramy/image/img/A01X/G101/ENG/GRM31CC71E226ME15-01A.pdf; Height: 1.25mm; Mouser Part Number: 81-GRM31CC71E226ME5L; Mouser Price/Stock: https://www.mouser.co.uk/ProductDetail/Murata-Electronics/GRM31CC71E226ME15L?qs=pUKx8fyJudCHY0oGjx2nuQ%3D%3D; Arrow Part Number: GRM31CC71E226ME15L; Arrow Price/Stock: https://www.arrow.com/en/products/grm31cc71e226me15l/murata-manufacturing?utm_currency=USD&region=nac
footprint GRM31x
pins: 1, 2

## GRM32E5C3A123JWA1K
designator C?, comment 12nF 1kV C0G
CAP CER 12NF 1KV C0G1210; Manufacturer_Name: Murata Electronics; Manufacturer_Part_Number: GRM32E5C3A123JWA1K; Datasheet Link: https://search.murata.co.jp/Ceramy/image/img/A01X/G101/ENG/GRM32E5C3A123JWA1-00B.pdf; Height: 1.5mm; Mouser Part Number: 81-GRM32E5CA123JWA1K; Mouser Price/Stock: https://www.mouser.co.uk/ProductDetail/Murata-Electronics/GRM32E5C3A123JWA1K?qs=doiCPypUmgELDjUosfhqKg%3D%3D
footprint GRM32x
pins: 1, 2

## GRM188R61E106KA73D
designator C?, comment 10uF 25V 0603
CAP CER 10UF 25V X5R 0603; Manufacturer_Name: Murata Electronics; Manufacturer_Part_Number: GRM188R61E106KA73D; Datasheet Link: https://search.murata.co.jp/Ceramy/image/img/A01X/G101/ENG/GRM188R61E106KA73-01A.pdf; Height: 0.9mm; Mouser Part Number: 81-GRM188R61E106KA3D; Mouser Price/Stock: https://www.mouser.co.uk/ProductDetail/Murata-Electronics/GRM188R61E106KA73D?qs=5aG0NVq1C4z8ebxPkQZf9A%3D%3D; Arrow Part Number: GRM188R61E106KA73D; Arrow Price/Stock: https://www.arrow.com/en/products/grm188r61e106ka73d/murata-manufacturing?utm_currency=USD&region=nac
footprint CAPC1608X90N
pins: 1, 2

## GRT188C71C475KE13D
designator C?, comment 4.7uF 16V 0603
CAP CER 4.7UF 16V X7S 0603; Manufacturer_Name: Murata Electronics; Manufacturer_Part_Number: GRT188C71C475KE13D; Datasheet Link: https://search.murata.co.jp/Ceramy/image/img/A01X/G101/ENG/GRT188C71C475KE13-01A.pdf; Height: 0.9mm; Mouser Part Number: 81-GRT188C71C475KE13; Mouser Price/Stock: https://www.mouser.co.uk/ProductDetail/Murata-Electronics/GRT188C71C475KE13D?qs=pUKx8fyJudC7lYX%252BQNKS7Q%3D%3D; Arrow Part Number: GRT188C71C475KE13D; Arrow Price/Stock: https://www.arrow.com/en/products/grt188c71c475ke13d/murata-manufacturing?utm_currency=USD&region=nac
footprint GRT188
pins: 1, 2

## HVCB2010BDE10M0
designator R?, comment 10M 2kV 0.1% 1W 2010
RES 10 MOHM 2KV 0.1% 1W 2010; Manufacturer_Name: Stackpole Electronics; Manufacturer_Part_Number: HVCB2010BDE10M0; Datasheet Link: https://cs.seielect.com/catalog/SEI-HVC.pdf; Height: 0.76mm; Mouser Part Number: 708-HVCB2010BDE10M0; Mouser Price/Stock: https://www.mouser.co.uk/ProductDetail/SEI-Stackpole/HVCB2010BDE10M0?qs=IPgv5n7u5QZLnWujxy1pUg%3D%3D; Arrow Part Number: HVCB2010BDE10M0; Arrow Price/Stock: https://www.arrow.com/en/products/hvcb2010bde10m0/stackpole-electronics?utm_currency=USD&region=nac
footprint RESC5125X76N
pins: 1, 2

## L4CC0306QLR012FNR
designator R?, comment 12m 1% 0306
RES 12 mOHM Shunt 1% 0.33W 0306; Manufacturer_Name: LITTELFUSE; Manufacturer_Part_Number: L4CC0306QLR012FNR; Datasheet Link: https://www.littelfuse.com/media?resourcetype=datasheets&itemid=db674d7b-aa25-4173-816a-92297475a59f&filename=littelfuse-resistor-l4ca-c-datasheet; Height: 0.65mm
footprint L4CC0306QLR012FNR
pins: E1, E2, I1, I2

## MMA02040C1009FB300
designator R?, comment 1.8R MELF 0204 0.4W
RES 1.8 OHM MELF 1% 0.4W 0204; Manufacturer_Name: Vishay; Manufacturer_Part_Number: MMA02040C1009FB300; Datasheet Link: https://componentsearchengine.com/Datasheets/2/MMA02040C1009FB300.pdf; Height: 1.4mm; Mouser Part Number: 594-MMA02040C1009FB3; Mouser Price/Stock: https://www.mouser.co.uk/ProductDetail/Vishay-Beyschlag/MMA02040C1009FB300?qs=RkCpvi25%252BSyflWOgAGeCBA%3D%3D; Arrow Part Number: MMA02040C1009FB300; Arrow Price/Stock: https://www.arrow.com/en/products/mma02040c1009fb300/vishay?region=nac
footprint MMA02040C1009FB300
pins: 1, 2

## MMB02070C1000FB200
designator R?, comment 100R MELF 0207 1W
RES 100 OHM MELF 0207 1W; Manufacturer_Name: Vishay; Manufacturer_Part_Number: MMB02070C1000FB200; Datasheet Link: http://uk.rs-online.com/web/p/products/6787845; Mouser Part Number: 594-MMB02070C1000FB2; Mouser Price/Stock: https://www.mouser.co.uk/ProductDetail/Vishay-Beyschlag/MMB02070C1000FB200?qs=Lnc17S3XxqB4aX6TuvzPvw%3D%3D; Arrow Part Number: MMB02070C1000FB200; Arrow Price/Stock: https://www.arrow.com/en/products/mmb02070c1000fb200/vishay?utm_currency=USD&region=europe
footprint MMB0207
pins: 1, 2

## MMB02070C3008FB200
designator R?, comment 3R MELF 0207 1W
RES 3 OHM MELF 0207 1W; Manufacturer_Name: Vishay; Manufacturer_Part_Number: MMB02070C3008FB200; Datasheet Link: https://www.vishay.com/docs/28713/melfprof.pdf; Height: 2.2mm; Mouser Part Number: 594-MMB02070C3008FB2; Mouser Price/Stock: https://www.mouser.co.uk/ProductDetail/Vishay-Beyschlag/MMB02070C3008FB200?qs=YmMt7wOBEV5WUlHhJ27BBg%3D%3D; Arrow Part Number: MMB02070C3008FB200; Arrow Price/Stock: https://www.arrow.com/en/products/mmb02070c3008fb200/vishay?utm_currency=USD&region=nac
footprint MMB02070C3008FB200
pins: 1, 2

## NET TIE
designator NT?  (net tie, no BOM)
Height: 0.55mm
footprint NETTIE
pins: 1, 2

## PMEG2005CT,215
designator D?
DIODE ARR SCHOTTKY COM-K 20V TO-236AB; Manufacturer_Name: Nexperia; Manufacturer_Part_Number: PMEG2005CT,215; Datasheet Link: https://assets.nexperia.com/documents/data-sheet/PMEG2005CT.pdf; Height: 1.1mm; Mouser Part Number: 771-PMEG2005CT215; Mouser Price/Stock: https://www.mouser.co.uk/ProductDetail/Nexperia/PMEG2005CT215?qs=LMSg3oBIm%2Fhby4gUB%2FSQqQ%3D%3D; Arrow Part Number: PMEG2005CT,215; Arrow Price/Stock: https://www.arrow.com/en/products/pmeg2005ct215/nexperia?utm_currency=USD&region=nac
footprint SOT95P230X110-3N
pins: 1 ANODE_1, 2 ANODE_2, 3 COMMON_CATHODE

## QLSP08RGB_B
designator LED?
LED RGB DIFFUSED 5050 SMD; Manufacturer_Name: QUELIGHTING; Manufacturer_Part_Number: QLSP08RGB_B; Datasheet Link: https://mm.digikey.com/Volume0/opasdata/d220001/medias/docus/5338/QLSP08RGB_B.pdf; Height: 1.8mm
footprint QLSP08RGB_B
pins: 1 K_B, 2 A_B, 3 K_G, 4 A_G, 5 K_R, 6 A_R

## QS5K2TR
designator Q?
MOS 2N COMM SOUR 30V 2A TSMT5; Manufacturer_Name: ROHM Semiconductor; Manufacturer_Part_Number: QS5K2TR; Datasheet Link: http://rohmfs.rohm.com/en/products/databook/datasheet/discrete/transistor/mosfet/qs5k2.pdf; Height: 1mm; Mouser Part Number: 755-QS5K2TR; Mouser Price/Stock: https://www.mouser.co.uk/ProductDetail/ROHM-Semiconductor/QS5K2TR?qs=4kLU8WoGk0sAzJF854peiQ%3D%3D
footprint SOT95P280X100-5N
pins: 1 TR1_GATE, 2 TR1_SOURCE_TR2_SOURCE, 3 TR2_GATE, 4 TR2_DRAIN, 5 TR1_DRAIN

## RC1206FR-072M7L
designator R?, comment 2.7M 1% 0.25W 1206
RES 2.7 MOHM 1% 1/4W 1206; Manufacturer_Name: Yageo Group; Manufacturer_Part_Number: RC1206FR-072M7L; Datasheet Link: https://www.sos.sk/productdata/35/10/4/35104/RC1206.pdf; Height: 0.65mm; Arrow Part Number: RC1206FR-072M7L; Arrow Price/Stock: https://www.arrow.com/en/products/rc1206fr-072m7l/yageo?utm_currency=USD&region=nac
footprint RESC3116X65N
pins: 1, 2

## RCS06034K70FKEA
designator R?, comment 4.7k 1% 0.25W 0603
RES 4.7 KOHM 1% 1/4W 0603; Manufacturer_Name: Vishay; Manufacturer_Part_Number: RCS06034K70FKEA; Datasheet Link: https://www.vishay.com/docs/20065/rcse3.pdf; Mouser Part Number: 71-RCS06034K70FKEA; Mouser Price/Stock: https://www.mouser.co.uk/ProductDetail/Vishay-Dale/RCS06034K70FKEA?qs=NKmfXavxMaxcaMGLC8ehbA%3D%3D; Arrow Part Number: RCS06034K70FKEA; Arrow Price/Stock: https://www.arrow.com/en/products/rcs06034k70fkea/vishay?utm_currency=USD&region=nac
footprint RCS0603_E3
pins: 1, 2

## RCS120627K0FKEA
designator R?, comment 27k 1% 1W 1206
RES 27 KOHM 1% 1W 1206; Manufacturer_Name: Vishay; Manufacturer_Part_Number: RCS120627K0FKEA; Datasheet Link: https://www.vishay.com/docs/20065/rcse3.pdf; Mouser Part Number: 71-RCS120627K0FKEA; Mouser Price/Stock: https://www.mouser.com/Search/Refine.aspx?Keyword=71-RCS120627K0FKEA
footprint RCS1206_E3
pins: 1, 2

## RCS120675R0FKEA
designator R?, comment 75R 1% 1W 1206
RES 75 OHM 1% 1W 1206; Manufacturer_Name: Vishay; Manufacturer_Part_Number: RCS120675R0FKEA; Datasheet Link: https://www.vishay.com/docs/20065/rcse3.pdf; Mouser Part Number: 71-RCS120675R0FKEA; Mouser Price/Stock: https://www.mouser.com/Search/Refine.aspx?Keyword=71-RCS120675R0FKEA
footprint RCS1206_E3
pins: 1, 2

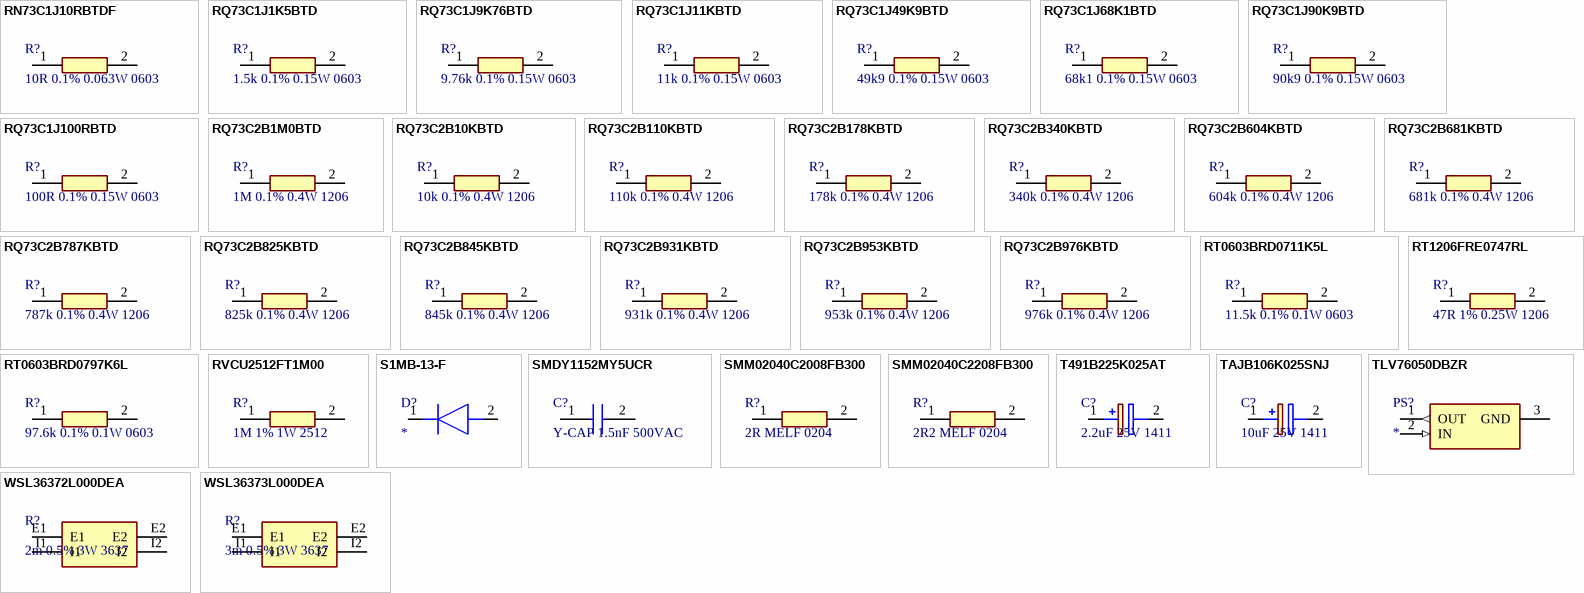
[diagram p2: symbols RN73C1J10RBTDF to WSL36373L000DEA]

## RN73C1J10RBTDF
designator R?, comment 10R 0.1% 0.063W 0603
RES 10 OHM 0.1% 1/16W 0603; Manufacturer_Name: TE Connectivity; Manufacturer_Part_Number: RN73C1J10RBTDF; Datasheet Link: https://www.te.com/commerce/DocumentDelivery/DDEController?Action=srchrtrv&DocNm=8-1773459-4_ELEVATOR_ESCALATOR_SOLUTIONS&DocType=Data%20Sheet&DocLang=English&PartCntxt=8-1879133-0&DocFormat=pdf; Height: 0.55mm; Mouser Part Number: 279-RN73C1J10RBTDF; Mouser Price/Stock: https://www.mouser.com.tr/ProductDetail/TE-Connectivity-Holsworthy/RN73C1J10RBTDF?qs=iJVBkmKXgrnCb4P1y6o3xw%3D%3D; Arrow Part Number: RN73C1J10RBTDF; Arrow Price/Stock: https://www.arrow.com/en/products/rn73c1j10rbtdf/te-connectivity?q=RN73C1J10RBTDF
footprint RESC1608X55N
pins: 1, 2

## RQ73C1J1K5BTD
designator R?, comment 1.5k 0.1% 0.15W 0603
RES 1.5 KOHM 0.1% 0.15W 0603; Manufacturer_Name: TE Connectivity; Manufacturer_Part_Number: RQ73C1J1K5BTD; Datasheet Link: https://www.te.com/usa-en/product-5-2176370-3.datasheet.pdf; Height: 0.55mm; Mouser Part Number: 279-RQ73C1J1K5BTD; Mouser Price/Stock: https://www.mouser.co.uk/ProductDetail/TE-Connectivity-Holsworthy/RQ73C1J105KBTDF?qs=gZXFycFWdAObvOWrG7trrA%3D%3D; Arrow Part Number: RQ73C1J1K5BTD; Arrow Price/Stock: https://www.arrow.com/en/products/rq73c1j1k5btd/te-connectivity?q=RQ73C1J1K5BTD
footprint RESC1608X55N
pins: 1, 2

## RQ73C1J9K76BTD
designator R?, comment 9.76k 0.1% 0.15W 0603
RES 9.76 KOHM 0.1% 0.15W 0603; Manufacturer_Name: TE Connectivity; Manufacturer_Part_Number: RQ73C1J9K76BTD; Datasheet Link: https://www.te.com/usa-en/product-3-2176371-2.datasheet.pdf; Height: 0.55mm; Mouser Part Number: 279-RQ73C1J9K76BTD; Mouser Price/Stock: https://www.mouser.com.tr/ProductDetail/TE-Connectivity-Holsworthy/RQ73C1J9K76BTD?qs=gZXFycFWdAN%252Bb7SE6PAquw%3D%3D; Arrow Part Number: RQ73C1J9K76BTD; Arrow Price/Stock: https://www.arrow.com/en/products/rq73c1j9k76btd/te-connectivity
footprint RESC1608X55N
pins: 1, 2

## RQ73C1J11KBTD
designator R?, comment 11k 0.1% 0.15W 0603
RES 11 KOHM 0.1% 0.15W 0603; Manufacturer_Name: TE Connectivity; Manufacturer_Part_Number: RQ73C1J11KBTD; Datasheet Link: https://www.te.com/usa-en/product-3-2176371-7.datasheet.pdf; Height: 0.55mm; Mouser Part Number: 279-RQ73C1J11KBTD; Mouser Price/Stock: https://www.mouser.com.tr/ProductDetail/TE-Connectivity-Holsworthy/RQ73C1J11KBTD?qs=gZXFycFWdAN4lIqXU3eCqw%3D%3D
footprint RESC1608X55N
pins: 1, 2

## RQ73C1J49K9BTD
designator R?, comment 49k9 0.1% 0.15W 0603
RES 49.9 KOHM 0.1% 0.15W 0603; Manufacturer_Name: TE Connectivity; Manufacturer_Part_Number: RQ73C1J49K9BTD; Datasheet Link: https://www.te.com/usa-en/product-3-2176371-7.datasheet.pdf; Height: 0.55mm
footprint RESC1608X55N
pins: 1, 2

## RQ73C1J68K1BTD
designator R?, comment 68k1 0.1% 0.15W 0603
RES 68.1 KOHM 0.1% 0.15W 0603; Manufacturer_Name: TE Connectivity; Manufacturer_Part_Number: RQ73C1J68K1BTD; Datasheet Link: https://www.te.com/usa-en/product-3-2176371-7.datasheet.pdf; Height: 0.55mm
footprint RESC1608X55N
pins: 1, 2

## RQ73C1J90K9BTD
designator R?, comment 90k9 0.1% 0.15W 0603
RES 90.9 KOHM 0.1% 0.15W 0603; Manufacturer_Name: TE Connectivity; Manufacturer_Part_Number: RQ73C1J90K9BTD; Datasheet Link: https://www.te.com/usa-en/product-3-2176371-7.datasheet.pdf; Height: 0.55mm
footprint RESC1608X55N
pins: 1, 2

## RQ73C1J100RBTD
designator R?, comment 100R 0.1% 0.15W 0603
RES 100 OHM 0.1% 0.15W 0603; Manufacturer_Name: TE Connectivity; Manufacturer_Part_Number: RQ73C1J100RBTD; Datasheet Link: https://www.te.com/usa-en/product-3-2176369-9.datasheet.pdf; Height: 0.55mm; Mouser Part Number: 279-RQ73C1J100RBTD; Mouser Price/Stock: https://www.mouser.co.uk/ProductDetail/TE-Connectivity-Holsworthy/RQ73C1J105KBTDF?qs=gZXFycFWdAObvOWrG7trrA%3D%3D
footprint RESC1608X55N
pins: 1, 2

## RQ73C2B1M0BTD
designator R?, comment 1M 0.1% 0.4W 1206
RES 1 MOHM 0.1% 0.4W 1206; Manufacturer_Name: TE Connectivity; Manufacturer_Part_Number: RQ73C2B1M0BTDF; Datasheet Link: https://www.te.com/commerce/DocumentDelivery/DDEController?Action=showdoc&DocId=Customer+Drawing%7F2176387%7FB%7Fpdf%7FEnglish%7FENG_CD_2176387_B.pdf%7F8-2176387-5; Height: 0.58mm
footprint RESC3016X65N
pins: 1, 2

## RQ73C2B10KBTD
designator R?, comment 10k 0.1% 0.4W 1206
RES 10 KOHM 0.1% 0.4W 1206; Manufacturer_Name: TE Connectivity; Manufacturer_Part_Number: RQ73C2B10KBTD; Datasheet Link: https://www.te.com/usa-en/product-9-2176390-1.datasheet.pdf; Height: 0.65mm; Mouser Part Number: 279-RQ73C2B10KBTD; Mouser Price/Stock: https://www.mouser.com.tr/ProductDetail/TE-Connectivity-Holsworthy/RQ73C2B10KBTD?qs=gZXFycFWdANWMnGuXdGmXg%3D%3D; Arrow Part Number: RQ73C2B10KBTD; Arrow Price/Stock: https://www.arrow.com/en/products/rq73c2b10kbtd/te-connectivity
footprint RESC3016X65N
pins: 1, 2

## RQ73C2B110KBTD
designator R?, comment 110k 0.1% 0.4W 1206
RES 110 KOHM 0.1% 0.4W 1206; Manufacturer_Name: TE Connectivity; Manufacturer_Part_Number: RQ73C2B110KBTD; Datasheet Link: https://www.te.com/usa-en/product-9-2176391-2.datasheet.pdf; Height: 0.65mm; Mouser Part Number: 279-RQ73C2B110KBTD; Mouser Price/Stock: https://www.mouser.com.tr/ProductDetail/TE-Connectivity-Holsworthy/RQ73C2B110KBTD?qs=gZXFycFWdAPo3ZyBERyi4A%3D%3D; Arrow Part Number: RQ73C2B110KBTD; Arrow Price/Stock: https://www.arrow.com/en/products/rq73c2b110kbtd/te-connectivity?q=RQ73C2B110KBTD
footprint RESC3016X65N
pins: 1, 2

## RQ73C2B178KBTD
designator R?, comment 178k 0.1% 0.4W 1206
RES 178 KOHM 0.1% 0.4W 1206; Manufacturer_Name: TE Connectivity; Manufacturer_Part_Number: RQ73C2B178KBTD; Datasheet Link: https://www.te.com/usa-en/product-1-2176392-3.datasheet.pdf; Height: 0.65mm; Mouser Part Number: 279-RQ73C2B178KBTD; Mouser Price/Stock: https://www.mouser.com.tr/ProductDetail/TE-Connectivity-Holsworthy/RQ73C2B178KBTD?qs=gZXFycFWdANsRYhaTIYFXg%3D%3D; Arrow Part Number: RQ73C2B178KBTD; Arrow Price/Stock: https://www.arrow.com/en/products/rq73c2b178kbtd/te-connectivity?q=RQ73C2B178KBTD
footprint RESC3016X65N
pins: 1, 2

## RQ73C2B340KBTD
designator R?, comment 340k 0.1% 0.4W 1206
RES 340 KOHM 0.1% 0.4W 1206; Manufacturer_Name: TE Connectivity; Manufacturer_Part_Number: RQ73C2B340KBTD; Datasheet Link: https://www.te.com/usa-en/product-4-2176392-0.datasheet.pdf; Height: 0.65mm; Mouser Part Number: 279-RQ73C2B340KBTD; Mouser Price/Stock: https://www.mouser.com.tr/ProductDetail/TE-Connectivity-Holsworthy/RQ73C2B340KBTD?qs=gZXFycFWdAPzxpGJ8YKiWg%3D%3D; Arrow Part Number: RQ73C2B340KBTD; Arrow Price/Stock: https://www.arrow.com/en/products/rq73c2b340kbtd/te-connectivity?q=RQ73C2B340KBTD
footprint RESC3016X65N
pins: 1, 2

## RQ73C2B604KBTD
designator R?, comment 604k 0.1% 0.4W 1206
RES 604 KOHM 0.1% 0.4W 1206; Manufacturer_Name: TE Connectivity; Manufacturer_Part_Number: RQ73C2B604KBTD; Datasheet Link: https://www.te.com/usa-en/product-8-2176392-2.datasheet.pdf; Height: 0.65mm; Mouser Part Number: 279-RQ73C2B604KBTD; Mouser Price/Stock: https://www.mouser.com.tr/ProductDetail/TE-Connectivity-Holsworthy/RQ73C2B931KBTD?qs=gZXFycFWdAO9E%2FMLcZM6Gg%3D%3D
footprint RESC3016X65N
pins: 1, 2

## RQ73C2B681KBTD
designator R?, comment 681k 0.1% 0.4W 1206
RES 681 KOHM 0.1% 0.4W 1206; Manufacturer_Name: TE Connectivity; Manufacturer_Part_Number: RQ73C2B681KBTD; Datasheet Link: https://www.te.com/usa-en/product-9-2176391-2.datasheet.pdf; Height: 0.65mm; Mouser Part Number: 279-RQ73C2B681KBTD; Mouser Price/Stock: https://www.mouser.com.tr/ProductDetail/TE-Connectivity-Holsworthy/RQ73C2B681KBTD?qs=gZXFycFWdAPPpn0x5UHFAw%3D%3D; Arrow Part Number: RQ73C2B681KBTD; Arrow Price/Stock: https://www.arrow.com/en/products/rq73c2b681kbtd/te-connectivity?q=RQ73C2B681KBTD
footprint RESC3016X65N
pins: 1, 2

## RQ73C2B787KBTD
designator R?, comment 787k 0.1% 0.4W 1206
RES 787 KOHM 0.1% 0.4W 1206; Manufacturer_Name: TE Connectivity; Manufacturer_Part_Number: RQ73C2B787KBTD; Datasheet Link: https://www.te.com/usa-en/product-8-2176392-2.datasheet.pdf; Height: 0.65mm; Mouser Part Number: 279-RQ73C2B787KBTD; Mouser Price/Stock: https://www.mouser.com.tr/ProductDetail/TE-Connectivity-Holsworthy/RQ73C2B931KBTD?qs=gZXFycFWdAO9E%2FMLcZM6Gg%3D%3D
footprint RESC3016X65N
pins: 1, 2

## RQ73C2B825KBTD
designator R?, comment 825k 0.1% 0.4W 1206
RES 825 KOHM 0.1% 0.4W 1206; Manufacturer_Name: TE Connectivity; Manufacturer_Part_Number: RQ73C2B825KBTD; Datasheet Link: https://www.te.com/usa-en/product-8-2176392-2.datasheet.pdf; Height: 0.65mm; Mouser Part Number: 279-RQ73C2B825KBTD; Mouser Price/Stock: https://www.mouser.com.tr/ProductDetail/TE-Connectivity-Holsworthy/RQ73C2B931KBTD?qs=gZXFycFWdAO9E%2FMLcZM6Gg%3D%3D
footprint RESC3016X65N
pins: 1, 2